# Altium footprint library SnapEDApcb.PcbLib: 1 footprints
Each footprint in its own frame and in the unit in brackets; x right, y up, seen from the top. Pads: shape width x height; smd on the part's side, far side on the other; paste and mask are expansions set on the pad; w line width, h text height; cw(c..) or ccw(c..) is an arc to the next point about the centre after c.
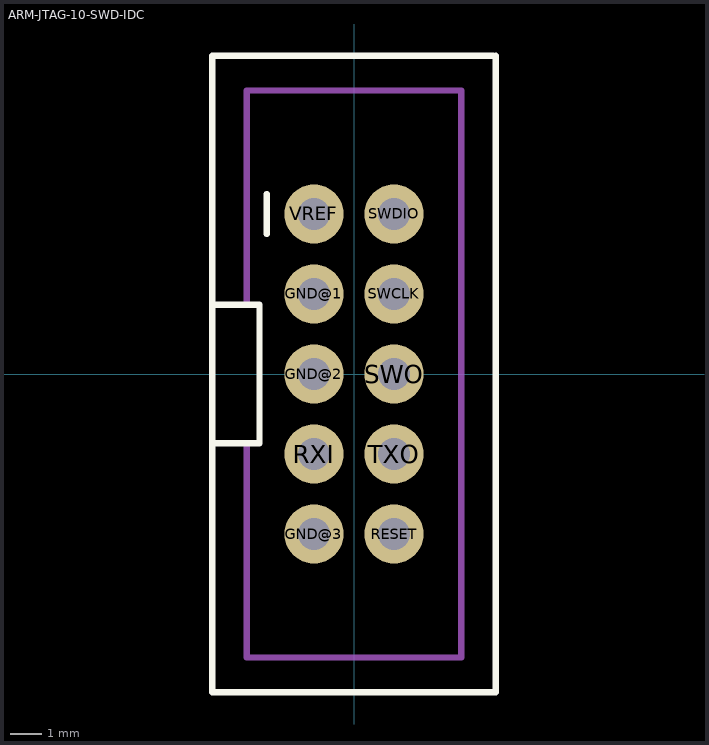
[diagram p0: the footprint, top view; thin cyan lines are the x and y axes]

## ARM-JTAG-10-SWD-IDC [mil]
pads (10):
  round 74 hole 40: GND@1(-50,100) GND@2(-50,0) GND@3(-50,-200) RESET(50,-200) RXI(-50,-100) SWCLK(50,100) SWDIO(50,200) SWO(50,0) TXO(50,-100) VREF(-50,200)
Top Overlay:
  lines w8: -109.25,175 -109.25,225 ; 173.23,397.64 -177.17,397.64 -177.17,86.61 ; 177.17,397.64 177.17,-397.64 -177.17,-397.64 -177.17,-86.61 ; -177.17,-86.61 -177.17,86.61 ; -177.17,-86.61 -118.11,-86.61 -118.11,86.61 -177.17,86.61
Bottom Overlay:
  lines w8: -110.75,175 -110.75,225
Mechanical 13:
  region: -40,190 -60,190 -60,210 -40,210
  region: 60,190 40,190 40,210 60,210
  region: 60,90 40,90 40,110 60,110
  region: -40,90 -60,90 -60,110 -40,110
  region: 60,-10 40,-10 40,10 60,10
  region: -40,-10 -60,-10 -60,10 -40,10
  region: 60,-110 40,-110 40,-90 60,-90
  region: -40,-110 -60,-110 -60,-90 -40,-90
  region: 60,-210 40,-210 40,-190 60,-190
  region: -40,-210 -60,-210 -60,-190 -40,-190
  region: -40,-110 -60,-110 -60,-90 -40,-90
  region: 60,-110 40,-110 40,-90 60,-90
  lines w8: -133.86,-86.61 -133.86,-354.33 133.86,-354.33 133.86,354.33 -133.86,354.33 -133.86,86.61